# EAGLE library part RFM12B_MINPADS (library LowPowerLab)
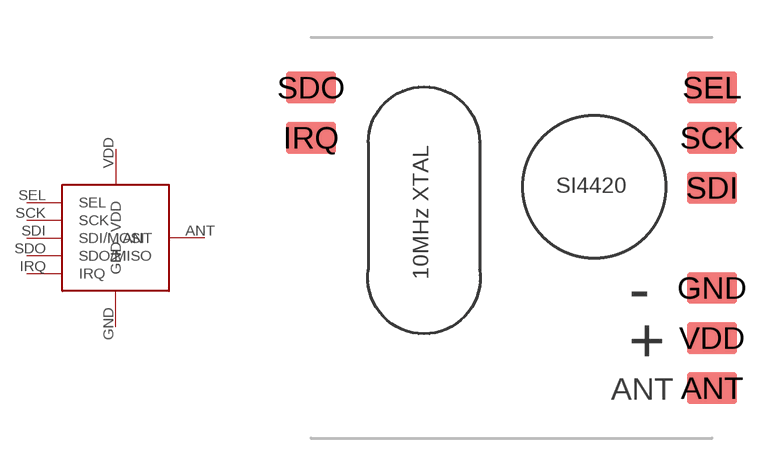
[diagram p9: symbol with the pads of RFM12B-MINPADS; footprint RFM12B-MINPADS]

Designator prefix -

## RFM12B_MINPADS  [RFM12B-MINPADS]
ANT  ANT
GND  GND
IRQ  IRQ
SCK  SCK
SDI  SDI/MOSI
SDO  SDO/MISO
SEL  SEL
VDD  VDD

## Footprint RFM12B-MINPADS (pad centres in mm)
smd 2 x 1.27: ANT 8,-6; GND 8,-2; IRQ -8,4; SCK 8,4; SDI 8,2; SDO -8,6; SEL 8,6; VDD 8,-4